# Altium schematic symbol library AD5320.SchLib: 1 symbol
Pins are listed as number, name and electrical type; pins without a type are passive.

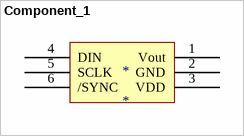
[diagram p0: symbol Component_1]

## Component_1
designator *
pins: 1 Vout, 2 GND, 3 VDD, 4 DIN, 5 SCLK, 6 /SYNC